# EAGLE library part NTB0104 (library Mine)
The NTB0104 is a 4-bit, dual supply translating transceiver with auto direction sensing, that enables bidirectional voltage level translation
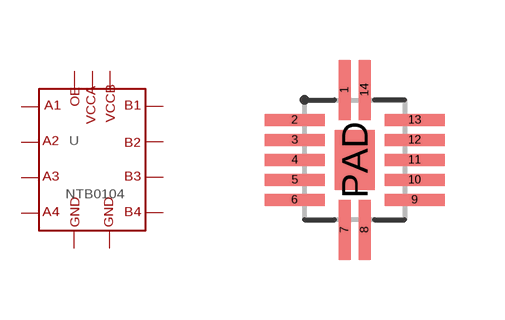
[diagram p6: symbol with the pads of DHVQFN14; footprint DHVQFN14]

Designator prefix -

## NTB0104  [DHVQFN14]
1  VCCA
2  A1
3  A2
4  A3
5  A4
7  GND
8  OE
10  B4
11  B3
12  B2
13  B1
14  VCCB
PAD  PAD  pwr

## Footprint DHVQFN14 (pad centres in mm)
smd 0.3 x 1.5: 1 -0.25,1.75; 7 -0.25,-1.75; 8 0.25,-1.75; 14 0.25,1.75
smd 1.5 x 0.3: 2 -1.5,1; 3 -1.5,0.5; 4 -1.5,0; 5 -1.5,-0.5; 6 -1.5,-1; 9 1.5,-1; 10 1.5,-0.5; 11 1.5,0; 12 1.5,0.5; 13 1.5,1
smd 1 x 1.5: PAD 0,0